# EAGLE library part EMI-FILTER (library emi-filter)
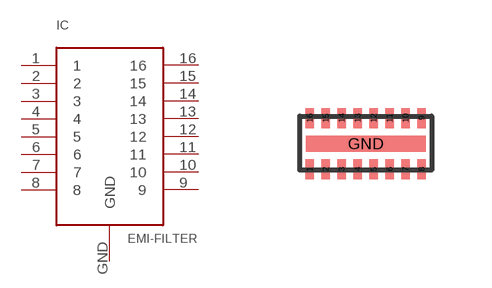
[diagram p0: symbol with the pads of HUSON16; footprint HUSON16]

Designator prefix IC

## EMI-FILTER  [HUSON16]
1  1
2  2
3  3
4  4
5  5
6  6
7  7
8  8
9  9
10  10
11  11
12  12
13  13
14  14
15  15
16  16
GND  GND

## Footprint HUSON16 (pad centres in mm)
smd 0.22 x 0.5: 1 -1.35,-0.675; 2 -0.95,-0.675; 3 -0.55,-0.675; 4 -0.15,-0.675; 5 0.25,-0.675; 6 0.65,-0.675; 7 1.05,-0.675; 8 1.45,-0.675; 9 1.45,0.605; 10 1.05,0.605; 11 0.65,0.605; 12 0.25,0.605; 13 -0.15,0.605; 14 -0.55,0.605; 15 -0.95,0.605; 16 -1.35,0.605
smd 3 x 0.4: GND 0.05,-0.04